# Altium footprint library thesis_footprint_lib.PcbLib: 64 footprints (part 3 of 4)
Each footprint in its own frame and in the unit in brackets; x right, y up, seen from the top. Pads: shape width x height; smd on the part's side, far side on the other; paste and mask are expansions set on the pad; w line width, h text height; cw(c..) or ccw(c..) is an arc to the next point about the centre after c.
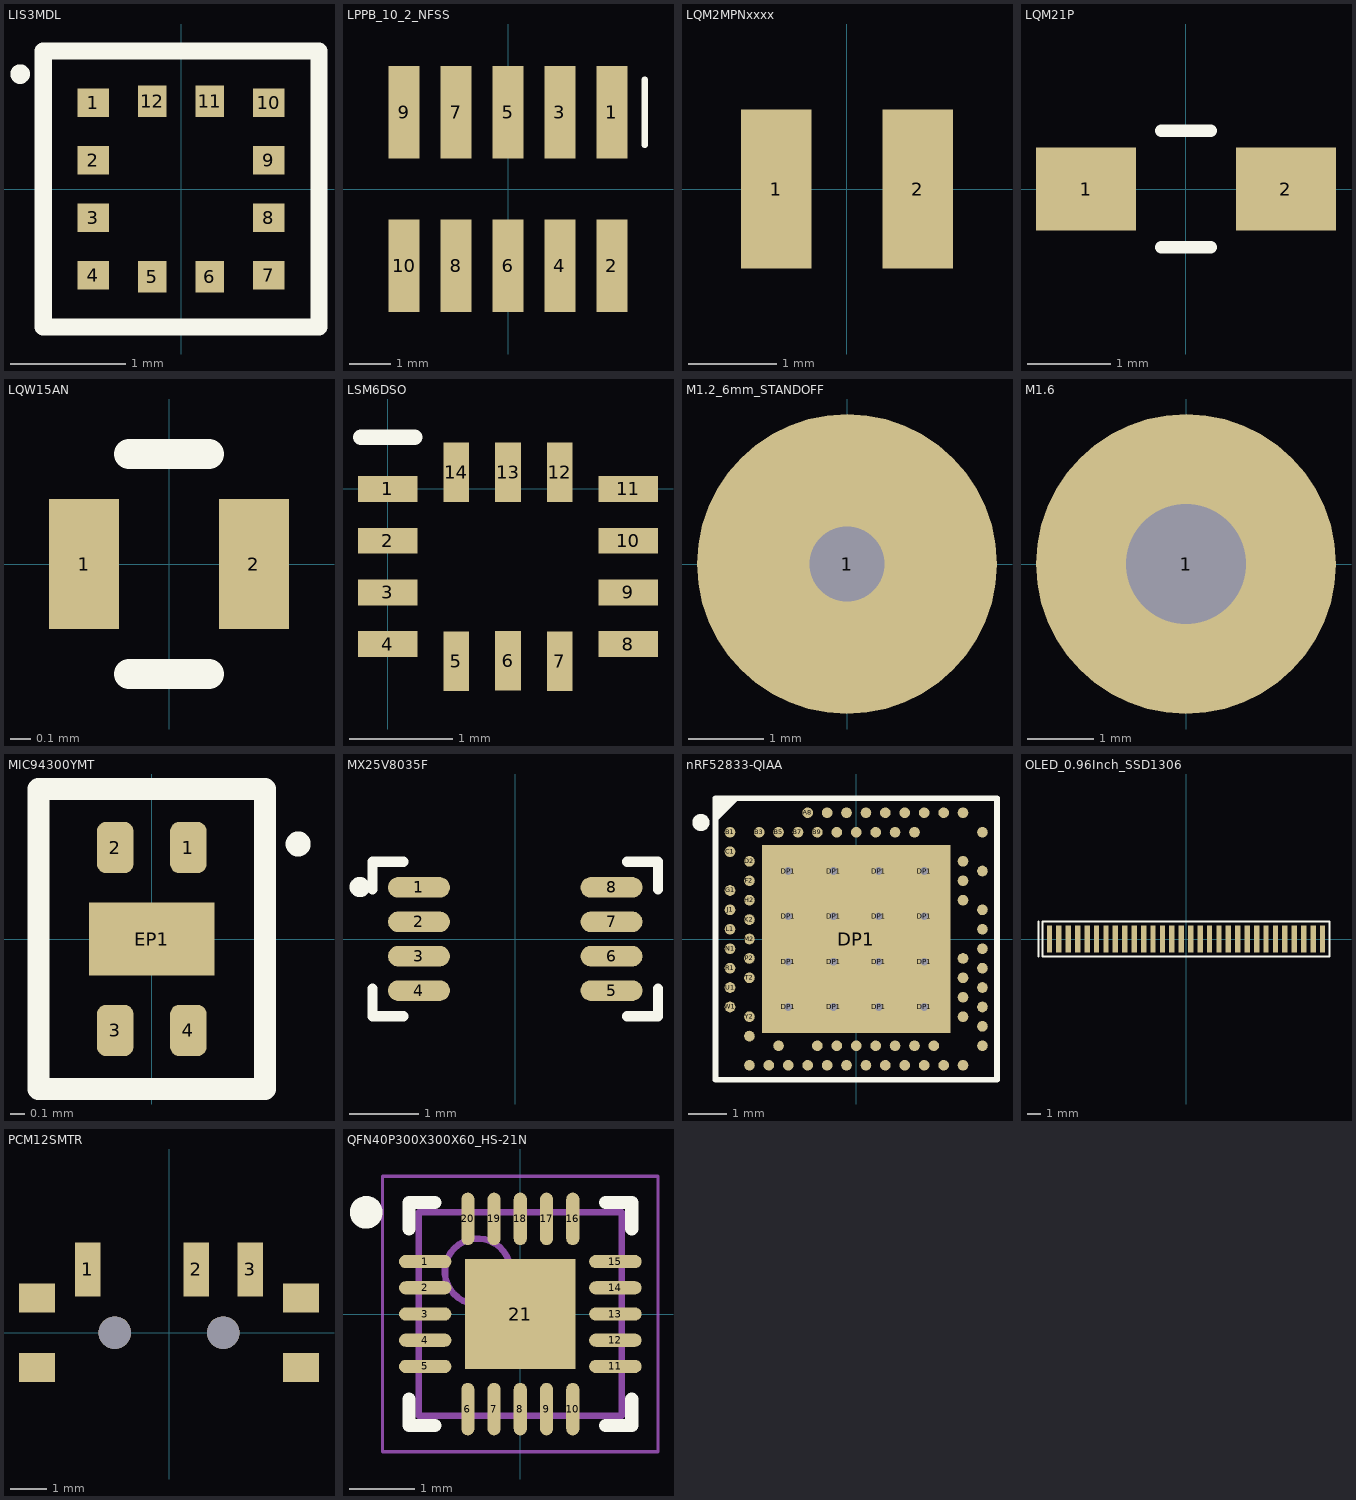
[diagram p2: the footprints below, top view; thin cyan lines are the x and y axes]

## LIS3MDL [mm] "ST LGA-12 2x2 Magnetometer"
height 1
pads (12):
  rect 0.275x0.25 smd paste-0.021 mask+0.05: 1(-0.763,0.75) 2(-0.763,0.25) 3(-0.763,-0.25) 4(-0.763,-0.75) 7(0.763,-0.75) 8(0.763,-0.25) 9(0.763,0.25) 10(0.763,0.75)
  rect 0.25x0.275 smd paste-0.021 mask+0.05: 5(-0.25,-0.763) 6(0.25,-0.763) 11(0.25,0.763) 12(-0.25,0.763)
Top Overlay:
  circle w0.15: c-1.4,1 r0.01
  lines w0.15: -1.2,-1.2 1.2,-1.2 1.2,1.2 -1.2,1.2 -1.2,-1.2
3D body: height 1, standoff 0, extent -1,-1 1,1

## LPPB_10_2_NFSS [mm]
pads (10):
  rect 0.76x2.25 smd mask+0.05: 1(2.54,1.875) 2(2.54,-1.875) 3(1.27,1.875) 4(1.27,-1.875) 5(0,1.875) 6(0,-1.875) 7(-1.27,1.875) 8(-1.27,-1.875) 9(-2.54,1.875) 10(-2.54,-1.875)
Top Overlay:
  lines w0.15: 3.34,1.075 3.34,2.675
3D body: height 4.65, standoff 0, extent -3.1,-1.55 3.1,1.55
3D body: height 0.4, standoff 0, extent -2.74,-2.635 -2.34,-0.435
3D body: height 0.4, standoff 0, extent -1.47,-2.635 -1.07,-0.435
3D body: height 0.4, standoff 0, extent 2.34,-2.635 2.74,-0.435
3D body: height 0.4, standoff 0, extent 1.07,-2.635 1.47,-0.435
3D body: height 0.4, standoff 0, extent -0.2,-2.635 0.2,-0.435
3D body: height 0.4, standoff 0, extent 2.34,0.435 2.74,2.635
3D body: height 0.4, standoff 0, extent 1.07,0.435 1.47,2.635
3D body: height 0.4, standoff 0, extent -2.74,0.435 -2.34,2.635
3D body: height 0.4, standoff 0, extent -1.47,0.435 -1.07,2.635
3D body: height 0.4, standoff 0, extent -0.2,0.435 0.2,2.635

## LQM2MPNxxxx [mm] "Inductor in 0805"
pads (2):
  rect 0.8x1.8 smd mask+0: 1(-0.8,0) 2(0.8,0)
3D body: height 0.9, standoff 0, extent -1,-0.8 1,0.8

## LQM21P [mm]
pads (2):
  rect 1.2x1 smd mask+0: 1(-1.2,0) 2(1.2,0)
Top Overlay:
  lines w0.15: -0.3,-0.7 0.3,-0.7 ; -0.3,0.7 0.3,0.7
3D body: height 0.5, standoff 0, extent 0.5,-0.625 1,0.625
3D body: height 0.5, standoff 0, extent -1,-0.625 -0.5,0.625
3D body: height 0.5, standoff 0, extent -0.5,-0.625 0.5,0.625

## LQW15AN [mm]
pads (2):
  rect 0.35x0.65 smd mask+0.05: 1(-0.425,0) 2(0.425,0)
Top Overlay:
  lines w0.15: -0.2,-0.55 0.2,-0.55 ; -0.2,0.55 0.2,0.55

## LSM6DSO [mm]
pads (14):
  rect 0.575x0.25 smd paste-0.028 mask+0.05: 1(0,0) 2(0,-0.5) 3(0,-1) 4(0,-1.5) 8(2.325,-1.5) 9(2.325,-1) 10(2.325,-0.5) 11(2.325,0)
  rect 0.25x0.575 smd paste-0.028 mask+0.05: 5(0.663,-1.663) 6(1.162,-1.663) 7(1.662,-1.663) 12(1.662,0.163) 13(1.162,0.163) 14(0.663,0.163)
Top Overlay:
  lines w0.15: -0.26,0.5 0.26,0.5
3D body: height 0.86, standoff 0, extent -0.337,-2 2.662,0.5

## M1.2_6mm_STANDOFF [mm]
pads (1):
  round 4 / inner round 0 / far side round 0 hole 1 mask+0: 1(0,0)
3D body: height 6, standoff 0, extent -1.65,-1.65 1.65,1.65

## M1.6 [mm]
pads (1):
  round 4.5 hole 1.8 mask+0.25: 1(0,0)

## MIC94300YMT [mm] "200mA load switch"
pads (5):
  rrect50% 0.25x0.35 smd paste-0.008 mask+0.05: 1(0.25,0.625) 2(-0.25,0.625) 3(-0.25,-0.625) 4(0.25,-0.625)
  rect 0.86x0.5 smd paste-0.033 mask+0.05: EP1(0,0)
Top Overlay:
  circle w0.15: c1,0.65 r0.01
  lines w0.15: -0.775,-1.025 0.775,-1.025 0.775,1.025 -0.775,1.025 -0.775,-1.025
3D body: height 0.55, standoff 0, extent -0.6,-0.8 0.6,0.8

## MISC_OLED [mm]
3D body: height 1.45, standoff 0, extent -13.35,-8.13 13.35,8.13

## MX25V8035F [mm]
pads (8):
  rrect100% 0.9x0.3 smd mask+0: 1(-1.4,0.75) 2(-1.4,0.25) 3(-1.4,-0.25) 4(-1.4,-0.75) 5(1.4,-0.75) 6(1.4,-0.25) 7(1.4,0.25) 8(1.4,0.75)
Top Overlay:
  circle w0.245: c-2.26,0.755 r0.025
  lines w0.15: -2.075,-0.725 -2.075,-1.125 -1.625,-1.125 ; -2.075,0.725 -2.075,1.125 -1.625,1.125 ; 1.625,-1.125 2.075,-1.125 2.075,-0.725 ; 1.625,1.125 2.075,1.125 2.075,0.725
3D body: height 0.55, standoff 0, extent -1.5,-1 1.5,1

## nRF52833-QIAA [mm] "aQFN-73 Footprint for nRF52833"
height 0.675
pads (90):
  round 0.275 smd paste-2539.97 mask+0.05: A8(-1.25,3.25) A10(-0.75,3.25) A12(-0.25,3.25) A14(0.25,3.25) A16(0.75,3.25) A18(1.25,3.25) A20(1.75,3.25) A22(2.25,3.25) A23(2.75,3.25) AA24(3.25,-2.25) AB2(-2.75,-2.5) AC5(-2,-2.75) AC9(-1,-2.75) AC11(-0.5,-2.75) AC13(0,-2.75) AC15(0.5,-2.75) AC17(1,-2.75) AC19(1.5,-2.75) AC21(2,-2.75) AC24(3.25,-2.75) AD2(-2.75,-3.25) AD4(-2.25,-3.25) AD6(-1.75,-3.25) AD8(-1.25,-3.25) AD10(-0.75,-3.25) AD12(-0.25,-3.25) AD14(0.25,-3.25) AD16(0.75,-3.25) AD18(1.25,-3.25) AD20(1.75,-3.25) AD22(2.25,-3.25) AD23(2.75,-3.25) B1(-3.25,2.75) B3(-2.5,2.75) B5(-2,2.75) B7(-1.5,2.75) B9(-1,2.75) B11(-0.5,2.75) B13(0,2.75) B15(0.5,2.75) B17(1,2.75) B19(1.5,2.75) B24(3.25,2.75) C1(-3.25,2.25) D2(-2.75,2) D23(2.75,2) E24(3.25,1.75) F2(-2.75,1.5) F23(2.75,1.5) G1(-3.25,1.25) H2(-2.75,1) H23(2.75,1) J1(-3.25,0.75) J24(3.25,0.75) K2(-2.75,0.5) L1(-3.25,0.25) L24(3.25,0.25) M2(-2.75,0) N1(-3.25,-0.25) N24(3.25,-0.25) P2(-2.75,-0.5) P23(2.75,-0.5) R1(-3.25,-0.75) R24(3.25,-0.75) T2(-2.75,-1) T23(2.75,-1) U1(-3.25,-1.25) U24(3.25,-1.25) V23(2.75,-1.5) W1(-3.25,-1.75) W24(3.25,-1.75) Y2(-2.75,-2) Y23(2.75,-2)
  round 0.45 hole 0.2 paste-0.012 mask+0.05: DP1(-1.75,-1.75) DP1(-1.75,-0.583) DP1(-1.75,0.583) DP1(-1.75,1.75) DP1(-0.583,-1.75) DP1(-0.583,-0.583) DP1(-0.583,0.583) DP1(-0.583,1.75) DP1(0.583,-1.75) DP1(0.583,-0.583) DP1(0.583,0.583) DP1(0.583,1.75) DP1(1.75,-1.75) DP1(1.75,-0.583) DP1(1.75,0.583) DP1(1.75,1.75)
  rect 4.85x4.85 smd paste-2539.97 mask+0.05: DP1(0,0)
Top Overlay:
  circle w0.245: c-4,3 r0.1
  region: -3.585,3.035 -3.035,3.585 -3.635,3.585
  lines w0.15: -3.625,-3.625 3.625,-3.625 3.625,3.625 -3.625,3.625 -3.625,-3.625
Top Paste:
  drawing of 82 lines, arcs and shapes, not listed
3D body: height 0.67, standoff 0, extent -3.5,-3.5 3.5,3.5

## OLED_0.96Inch_SSD1306 [mm]
pads (30):
  rect 0.4x2 smd mask+0.05: 1(-10.15,0) 2(-9.45,0) 3(-8.75,0) 4(-8.05,0) 5(-7.35,0) 6(-6.65,0) 7(-5.95,0) 8(-5.25,0) 9(-4.55,0) 10(-3.85,0) 11(-3.15,0) 12(-2.45,0) 13(-1.75,0) 14(-1.05,0) 15(-0.35,0) 16(0.35,0) 17(1.05,0) 18(1.75,0) 19(2.45,0) 20(3.15,0) 21(3.85,0) 22(4.55,0) 23(5.25,0) 24(5.95,0) 25(6.65,0) 26(7.35,0) 27(8.05,0) 28(8.75,0) 29(9.45,0) 30(10.15,0)
Top Overlay:
  lines w0.15: -10.95,-1.3 -10.95,1.3 ; -10.65,-1.3 10.65,-1.3 10.65,1.3 -10.65,1.3 -10.65,-1.3

## OLED_MISC [mm]
3D body: height 1.45, standoff 0, extent 0,-19.26 26.7,0

## PCM12SMTR [mm] "CK switches PCM series SMT switch"
pads (9):
  rect 0.7x1.5 smd paste-0.024 mask+0.05: 1(-2.25,1.75) 2(0.75,1.75) 3(2.25,1.75)
  rect 1x0.8 smd paste-0.023 mask+0.05: ""(-3.65,-0.965) ""(-3.65,0.965) ""(3.65,-0.965) ""(3.65,0.965)
  round 0.9 hole 0.9 unplated paste-0.023 mask+0.05: ""(-1.5,0) ""(1.5,0)
3D body: height 1.4, standoff 0, extent -3.35,-1.3 3.35,1.3
3D body: height 0.15, standoff 0, extent -3.85,-1.3 3.85,-0.65
3D body: height 0.15, standoff 0, extent -3.85,0.65 3.85,1.3
3D body: height 0.15, standoff 0, extent 0.55,1.3 0.95,2.2
3D body: height 0.15, standoff 0, extent -2.45,1.3 -2.05,2.2
3D body: height 0.15, standoff 0, extent 2.05,1.3 2.45,2.2
3D body: height 1.2, standoff 0.4, extent 0,-2.8 1.3,-1.3

## QFN40P300X300X60_HS-21N [mm] "QFN, 20-Leads, Body 3.00x3.00mm, Pitch 0.40mm, Thermal Pad 1.68x1.68mm, IPC Medium Density"
height 0.6
pads (21):
  oval 0.8x0.2 smd paste-0.017 mask+0.05: 1(-1.45,0.8) 2(-1.45,0.4) 3(-1.45,0) 4(-1.45,-0.4) 5(-1.45,-0.8) 11(1.45,-0.8) 12(1.45,-0.4) 13(1.45,0) 14(1.45,0.4) 15(1.45,0.8)
  oval 0.2x0.8 smd paste-0.017 mask+0.05: 6(-0.8,-1.45) 7(-0.4,-1.45) 8(0,-1.45) 9(0.4,-1.45) 10(0.8,-1.45) 16(0.8,1.45) 17(0.4,1.45) 18(0,1.45) 19(-0.4,1.45) 20(-0.8,1.45)
  rect 1.68x1.68 smd paste-2539.97 mask+0.05: 21(0,0)
Top Overlay:
  circle w0.25: c-2.35,1.55 r0.125
  lines w0.2: -1.7,-1.3 -1.7,-1.7 -1.3,-1.7 ; -1.7,1.3 -1.7,1.7 -1.3,1.7 ; 1.3,-1.7 1.7,-1.7 1.7,-1.3 ; 1.3,1.7 1.7,1.7 1.7,1.3
Top Paste:
  region: -0.74,-0.06 -0.06,-0.06 -0.06,-0.74 -0.74,-0.74
  region: 0.06,-0.06 0.74,-0.06 0.74,-0.74 0.06,-0.74
  region: 0.06,0.74 0.74,0.74 0.74,0.06 0.06,0.06
  region: -0.74,0.74 -0.06,0.74 -0.06,0.06 -0.74,0.06
Mechanical 13:
  circle w0.1: c-0.65,0.65 r0.5
  lines w0.1: -1.55,-1.55 -1.55,1.55 1.55,1.55 1.55,-1.55 -1.55,-1.55
Mechanical 15:
  lines w0.05: -2.1,-2.1 -2.1,2.1 2.1,2.1 2.1,-2.1 -2.1,-2.1
  lines w0.1: -0.5,0 0.5,0 ; 0,-0.5 0,0.5
3D body "QFN40P300X300X60_HS-21N.step": height 0.6, standoff 0, extent -1.551,-1.551 1.551,1.551